# Altium schematic symbol library 5015680607.Schlib: 1 symbol
Pins are listed as number, name and electrical type; pins without a type are passive.

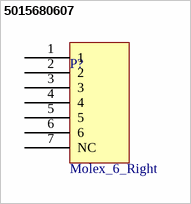
[diagram p0: symbol 5015680607]

## 5015680607
designator P?, comment Molex_6_Right
6 Pin Right Molex PCB Header
pins: 1, 2, 3, 4, 5, 6, 7 NC